# Altium schematic symbol library OpenPLCv0.2.0_Capacitor.SchLib: 14 symbols
Pins are listed as number, name and electrical type; pins without a type are passive.

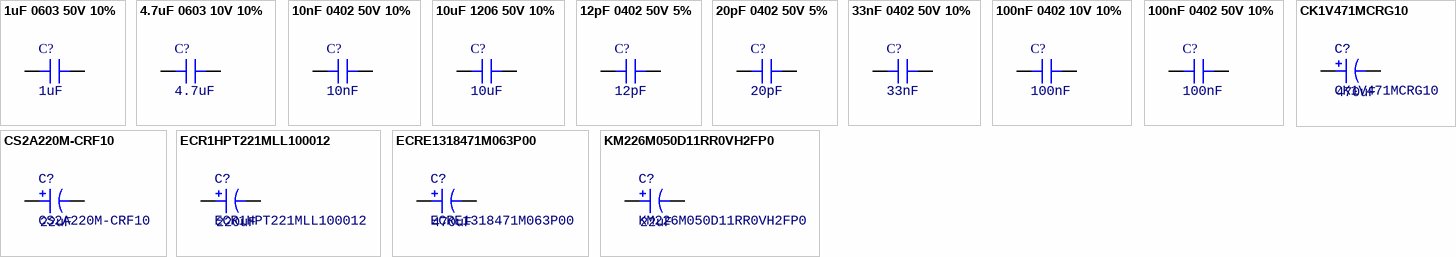
[diagram p0: symbols 1uF 0603 50V 10% to KM226M050D11RR0VH2FP0]

## 1uF 0603 50V 10%
designator C?, comment Capacitance: 1uF  (hidden comment: CC0603KRX5R9BB105)
1uF ±10% 50V X5R 0603 Multilayer Ceramic Capacitors MLCC - SMD/SMT RoHS; Package: 0603; Tolerance: 10%; Voltage Rating: 50V
footprint SMD_CAP_0603(0201)_N
pins: 1, 2

## 4.7uF 0603 10V 10%
designator C?, comment Capacitance: 4.7uF  (hidden comment: CC0603KRX5R6BB475)
4.7uF ±10% 10V X5R 0603 Multilayer Ceramic Capacitors MLCC - SMD/SMT RoHS; Package: 0603; Tolerance: 10%; Voltage Rating: 10V
footprint SMD_CAP_0603(0201)_N
pins: 1, 2

## 10nF 0402 50V 10%
designator C?, comment Capacitance: 10nF  (hidden comment: CC0402KRX7R9BB103)
10nF ±10% 50V X7R 0402 Multilayer Ceramic Capacitors MLCC - SMD/SMT RoHS; Package: 0402; Tolerance: 10%; Voltage Rating: 50V
footprint SMD_CAP_0402(1005)_N
pins: 1, 2

## 10uF 1206 50V 10%
designator C?, comment Capacitance: 10uF  (hidden comment: CC1206KKX5R9BB106)
10uF ±10% 50V X5R 1206 Multilayer Ceramic Capacitors MLCC - SMD/SMT RoHS; Package: 1206; Tolerance: 10%; Voltage Rating: 50V
footprint SMD_CAP_1206(3216)_N
pins: 1, 2

## 12pF 0402 50V 5%
designator C?, comment Capacitance: 12pF  (hidden comment: CC0402JRNPO9BN120)
12pF ±5% 50V NP0 0402 Multilayer Ceramic Capacitors MLCC - SMD/SMT RoHS; Package: 0402; Tolerance: 5%; Voltage Rating: 50V
footprint SMD_CAP_0402(1005)_N
pins: 1, 2

## 20pF 0402 50V 5%
designator C?, comment Capacitance: 20pF  (hidden comment: CC0402JRNPO9BN200)
20pF ±5% 50V NP0 0402 Multilayer Ceramic Capacitors MLCC - SMD/SMT RoHS; Package: 0402; Tolerance: 5%; Voltage Rating: 50V
footprint SMD_CAP_0402(1005)_N
pins: 1, 2

## 33nF 0402 50V 10%
designator C?, comment Capacitance: 33nF  (hidden comment: CC0402KRX7R9BB333)
33nF ±10% 50V X7R 0402 Multilayer Ceramic Capacitors MLCC - SMD/SMT RoHS; Package: 0402; Tolerance: 10%; Voltage Rating: 50V
footprint SMD_CAP_0402(1005)_N
pins: 1, 2

## 100nF 0402 10V 10%
designator C?, comment Capacitance: 100nF  (hidden comment: CC0402KRX5R6BB104)
100nF ±10% 10V X5R 0402 Multilayer Ceramic Capacitors MLCC - SMD/SMT RoHS; Package: 0402; Tolerance: 10%; Voltage Rating: 10V
footprint SMD_CAP_0402(1005)_N
pins: 1, 2

## 100nF 0402 50V 10%
designator C?, comment Capacitance: 100nF  (hidden comment: CC0402KRX5R9BB104)
100nF ±10% 50V X5R 0402 Multilayer Ceramic Capacitors MLCC - SMD/SMT RoHS; Package: 0402; Tolerance: 10%; Voltage Rating: 50V
footprint SMD_CAP_0402(1005)_N
pins: 1, 2

## CK1V471MCRG10
designator C?  Capacitance: 470uF
470uF ±20% 35V SMD,10x10.5mm Aluminum Electrolytic Capacitors - SMD RoHS; Voltage Max: 35V; Tolerance: 20%
footprint CAP_SMD_10x10.5mm (SMD,8x10.5mm Aluminum Electrolytic Capacitor)
pins: 1, 2

## CS2A220M-CRF10
designator C?  Capacitance: 22uF
22uF ±20% 100V SMD,8x10.5mm Aluminum Electrolytic Capacitors - SMD RoHS; Voltage Max: 100V; Tolerance: 20%
footprint CAP_SMD_8x10.5mm (SMD,8x10.5mm Aluminum Electrolytic Capacitor)
pins: 1, 2

## ECR1HPT221MLL100012
designator C?  Capacitance: 220uF
5mm 220uF 50V 12.5mm 2000hrs 85℃ ±20% 10mm Radial Leaded,10x12.5mm Aluminum Electrolytic Capacitors - Leaded ROHS; Voltage Max: 35V; Tolerance: 20%
footprint Electrolytic_D10mm_H12.5mm
pins: 1, 2

## ECRE1318471M063P00
designator C?  Capacitance: 470uF
5mm 470uF ±20% 2000hrs 105℃ 63V 12.5mm 18mm Radial Leaded,13x18mm Aluminum Electrolytic Capacitors - Leaded ROHS; Voltage Max: 35V; Tolerance: 20%
footprint Electrolytic_D12.5mm_H18mm
pins: 1, 2

## KM226M050D11RR0VH2FP0
designator C?  Capacitance: 22uF
2mm 22uF 50V ±20% 5mm 11mm 79mA 120Hz 1000hrs 105℃ Radial Leaded,5x11mm Aluminum Electrolytic Capacitors - Leaded ROHS; Voltage Max: 35V; Tolerance: 20%
footprint Electrolytic_D5mm_H11mm
pins: 1, 2